# EAGLE library part ZG2100M (library bnahill)
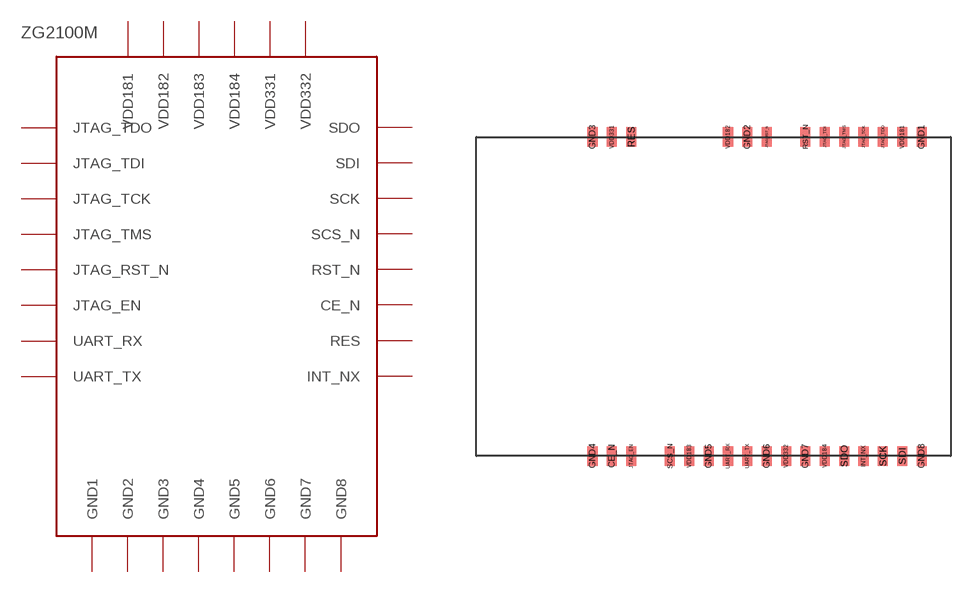
[diagram p0: symbol with the pads of ZG2100M; footprint ZG2100M]

Designator prefix -

## ZG2100M  [ZG2100M]
CE_N  CE_N
GND1  GND1
GND2  GND2
GND3  GND3
GND4  GND4
GND5  GND5
GND6  GND6
GND7  GND7
GND8  GND8
INT_NX  INT_NX
JTAG_EN  JTAG_EN
JTAG_RST_N  JTAG_RST_N
JTAG_TCK  JTAG_TCK
JTAG_TDI  JTAG_TDI
JTAG_TDO  JTAG_TDO
JTAG_TMS  JTAG_TMS
RES  RES
RST_N  RST_N
SCK  SCK
SCS_N  SCS_N
SDI  SDI
SDO  SDO
UART_RX  UART_RX
UART_TX  UART_TX
VDD181  VDD181
VDD182  VDD182
VDD183  VDD183
VDD184  VDD184
VDD331  VDD331
VDD332  VDD332

## Footprint ZG2100M (pad centres in mm)
smd 0.66 x 1.27: CE_N 8.89,-20.955; GND1 29.21,0; GND2 17.78,0; GND3 7.62,0; GND4 7.62,-20.955; GND5 15.24,-20.955; GND6 19.05,-20.955; GND7 21.59,-20.955; GND8 29.21,-20.955; INT_NX 25.4,-20.955; JTAG_EN 10.16,-20.955; JTAG_RST_N 19.05,0; JTAG_TCK 25.4,0; JTAG_TDI 22.86,0; JTAG_TDO 26.67,0; JTAG_TMS 24.13,0; RES 10.16,0; RST_N 21.59,0; SCK 26.67,-20.955; SCS_N 12.7,-20.955; SDI 27.94,-20.955; SDO 24.13,-20.955; UART_RX 16.51,-20.955; UART_TX 17.78,-20.955; VDD181 27.94,0; VDD182 16.51,0; VDD183 13.97,-20.955; VDD184 22.86,-20.955; VDD331 8.89,0; VDD332 20.32,-20.955